# Altium footprint library PCB - CONNECTOR - WURTH - 7461071.PCBLIB: 1 footprints
Each footprint in its own frame and in the unit in brackets; x right, y up, seen from the top. Pads: shape width x height; smd on the part's side, far side on the other; paste and mask are expansions set on the pad; w line width, h text height; cw(c..) or ccw(c..) is an arc to the next point about the centre after c.
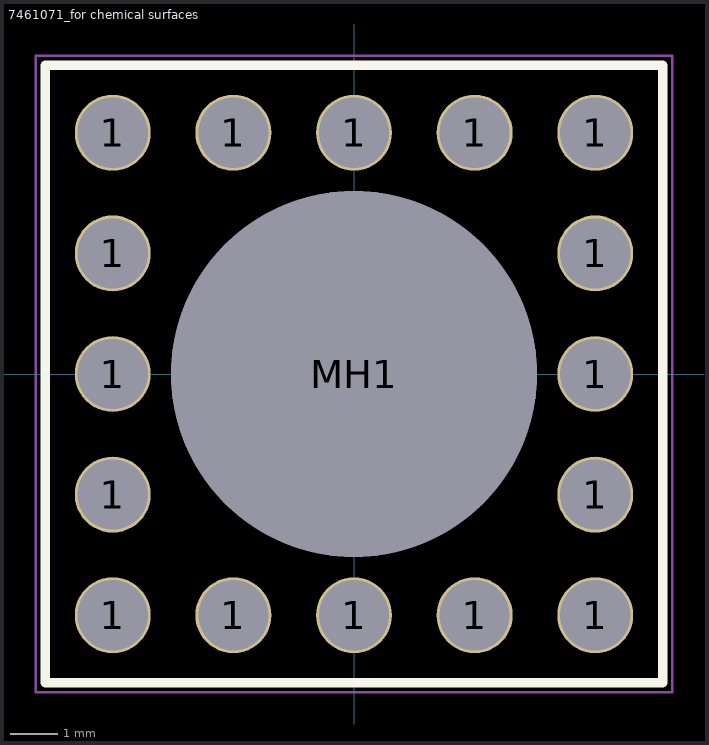
[diagram p0: the footprint, top view; thin cyan lines are the x and y axes]

## 7461071_for chemical surfaces [mm]
pads (17):
  round 1.6 hole 1.475: 1(-5.08,-5.08) 1(-5.08,-2.54) 1(-5.08,0) 1(-5.08,2.54) 1(-5.08,5.08) 1(-2.54,-5.08) 1(-2.54,5.08) 1(0,-5.08) 1(0,5.08) 1(2.54,-5.08) 1(2.54,5.08) 1(5.08,-5.08) 1(5.08,-2.54) 1(5.08,0) 1(5.08,2.54) 1(5.08,5.08)
  round 7.7 hole 7.7 unplated: MH1(0,0)
Top Overlay:
  lines w0.2: -6.5,-6.5 -6.5,6.5 6.5,6.5 6.5,-6.5 -6.5,-6.5
Top Assembly:
  lines w0.1: -6.5,-6.5 -6.5,6.5 6.5,6.5 6.5,-6.5 -6.5,-6.5
Top Courtyard:
  lines w0.05: -6.7,-6.7 -6.7,6.7 6.7,6.7 6.7,-6.7 -6.7,-6.7
Top Designator:
  text ".Designator" at -6.604,7.874 h1
Top Component Center:
  lines w0.05: -0.5,0 0.5,0 -0.5,0 ; 0,-0.5 0,0.5 0,-0.5
Top Value (Mech13):
  text ".Comment" at -6.604,6.985 h1
3D body "7461071.stp": height 3.1, standoff -3.5, extent -6.5,-6.5 6.5,6.5